# Altium footprint library con-weidmueller-sl35.PCBLIB: 184 footprints (part 2 of 12)
Each footprint in its own frame and in the unit in brackets; x right, y up, seen from the top. Pads: shape width x height; smd on the part's side, far side on the other; paste and mask are expansions set on the pad; w line width, h text height; cw(c..) or ccw(c..) is an arc to the next point about the centre after c.
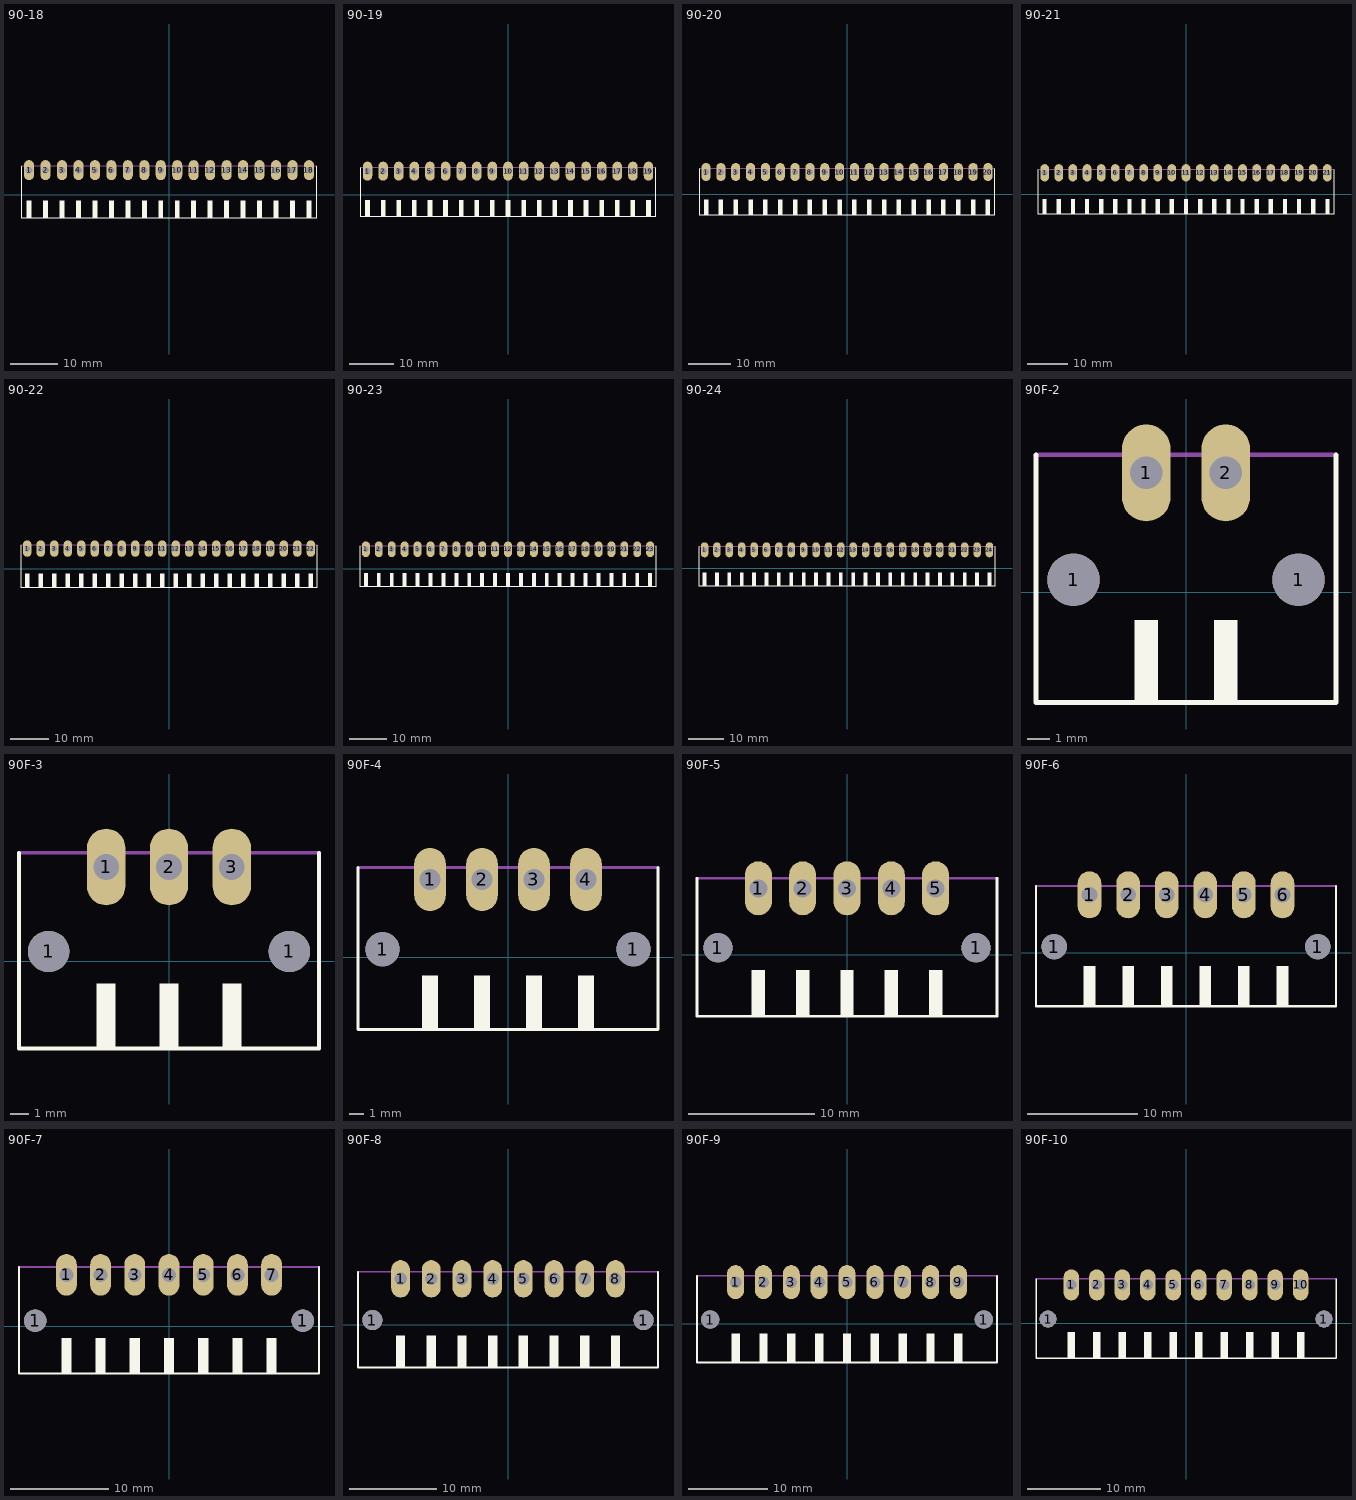
[diagram p1: the footprints below, top view; thin cyan lines are the x and y axes]

## 90-18 [mil]
pads (18):
  oval 84x168 hole 56: 1(-1171.26,206.69) 2(-1033.46,206.69) 3(-895.67,206.69) 4(-757.87,206.69) 5(-620.08,206.69) 6(-482.28,206.69) 7(-344.49,206.69) 8(-206.69,206.69) 9(-68.9,206.69) 10(68.9,206.69) 11(206.69,206.69) 12(344.49,206.69) 13(482.28,206.69) 14(620.08,206.69) 15(757.87,206.69) 16(895.67,206.69) 17(1033.46,206.69) 18(1171.26,206.69)
Top Overlay:
  rectangle: -1191.93,-192.91 -1150.59,-48.23
  rectangle: -1054.13,-192.91 -1012.8,-48.23
  rectangle: -916.34,-192.91 -875,-48.23
  rectangle: -778.54,-192.91 -737.2,-48.23
  rectangle: -640.75,-192.91 -599.41,-48.23
  rectangle: -502.95,-192.91 -461.61,-48.23
  rectangle: -365.16,-192.91 -323.82,-48.23
  rectangle: -227.36,-192.91 -186.02,-48.23
  rectangle: -89.57,-192.91 -48.23,-48.23
  rectangle: 48.23,-192.91 89.57,-48.23
  rectangle: 186.02,-192.91 227.36,-48.23
  rectangle: 323.82,-192.91 365.16,-48.23
  rectangle: 461.61,-192.91 502.95,-48.23
  rectangle: 599.41,-192.91 640.75,-48.23
  rectangle: 737.2,-192.91 778.54,-48.23
  rectangle: 875,-192.91 916.34,-48.23
  rectangle: 1012.8,-192.91 1054.13,-48.23
  rectangle: 1150.59,-192.91 1191.93,-48.23
  lines w8: -1236.22,238.19 -1236.22,-190.94 1236.22,-190.94 1236.22,238.19
Mechanical 16:
  lines w8: -1236.22,238.19 1236.22,238.19

## 90-19 [mil]
pads (19):
  oval 84x168 hole 56: 1(-1240.16,206.69) 2(-1102.36,206.69) 3(-964.57,206.69) 4(-826.77,206.69) 5(-688.98,206.69) 6(-551.18,206.69) 7(-413.39,206.69) 8(-275.59,206.69) 9(-137.8,206.69) 10(0,206.69) 11(137.8,206.69) 12(275.59,206.69) 13(413.39,206.69) 14(551.18,206.69) 15(688.98,206.69) 16(826.77,206.69) 17(964.57,206.69) 18(1102.36,206.69) 19(1240.16,206.69)
Top Overlay:
  rectangle: -1260.83,-192.91 -1219.49,-48.23
  rectangle: -1123.03,-192.91 -1081.69,-48.23
  rectangle: -985.24,-192.91 -943.9,-48.23
  rectangle: -847.44,-192.91 -806.1,-48.23
  rectangle: -709.65,-192.91 -668.31,-48.23
  rectangle: -571.85,-192.91 -530.51,-48.23
  rectangle: -434.06,-192.91 -392.72,-48.23
  rectangle: -296.26,-192.91 -254.92,-48.23
  rectangle: -158.46,-192.91 -117.13,-48.23
  rectangle: -20.67,-192.91 20.67,-48.23
  rectangle: 117.13,-192.91 158.46,-48.23
  rectangle: 254.92,-192.91 296.26,-48.23
  rectangle: 392.72,-192.91 434.06,-48.23
  rectangle: 530.51,-192.91 571.85,-48.23
  rectangle: 668.31,-192.91 709.65,-48.23
  rectangle: 806.1,-192.91 847.44,-48.23
  rectangle: 943.9,-192.91 985.24,-48.23
  rectangle: 1081.69,-192.91 1123.03,-48.23
  rectangle: 1219.49,-192.91 1260.83,-48.23
  lines w8: -1305.12,238.19 -1305.12,-190.94 1305.12,-190.94 1305.12,238.19
Mechanical 16:
  lines w8: -1305.12,238.19 1305.12,238.19

## 90-20 [mil]
pads (20):
  oval 84x168 hole 56: 1(-1309.06,206.69) 2(-1171.26,206.69) 3(-1033.46,206.69) 4(-895.67,206.69) 5(-757.87,206.69) 6(-620.08,206.69) 7(-482.28,206.69) 8(-344.49,206.69) 9(-206.69,206.69) 10(-68.9,206.69) 11(68.9,206.69) 12(206.69,206.69) 13(344.49,206.69) 14(482.28,206.69) 15(620.08,206.69) 16(757.87,206.69) 17(895.67,206.69) 18(1033.46,206.69) 19(1171.26,206.69) 20(1309.06,206.69)
Top Overlay:
  rectangle: -1329.72,-192.91 -1288.39,-48.23
  rectangle: -1191.93,-192.91 -1150.59,-48.23
  rectangle: -1054.13,-192.91 -1012.8,-48.23
  rectangle: -916.34,-192.91 -875,-48.23
  rectangle: -778.54,-192.91 -737.2,-48.23
  rectangle: -640.75,-192.91 -599.41,-48.23
  rectangle: -502.95,-192.91 -461.61,-48.23
  rectangle: -365.16,-192.91 -323.82,-48.23
  rectangle: -227.36,-192.91 -186.02,-48.23
  rectangle: -89.57,-192.91 -48.23,-48.23
  rectangle: 48.23,-192.91 89.57,-48.23
  rectangle: 186.02,-192.91 227.36,-48.23
  rectangle: 323.82,-192.91 365.16,-48.23
  rectangle: 461.61,-192.91 502.95,-48.23
  rectangle: 599.41,-192.91 640.75,-48.23
  rectangle: 737.2,-192.91 778.54,-48.23
  rectangle: 875,-192.91 916.34,-48.23
  rectangle: 1012.8,-192.91 1054.13,-48.23
  rectangle: 1150.59,-192.91 1191.93,-48.23
  rectangle: 1288.39,-192.91 1329.72,-48.23
  lines w8: -1374.02,238.19 -1374.02,-190.94 1374.02,-190.94 1374.02,238.19
Mechanical 16:
  lines w8: -1374.02,238.19 1374.02,238.19

## 90-21 [mil]
pads (21):
  oval 84x168 hole 56: 1(-1377.95,206.69) 2(-1240.16,206.69) 3(-1102.36,206.69) 4(-964.57,206.69) 5(-826.77,206.69) 6(-688.98,206.69) 7(-551.18,206.69) 8(-413.39,206.69) 9(-275.59,206.69) 10(-137.8,206.69) 11(0,206.69) 12(137.8,206.69) 13(275.59,206.69) 14(413.39,206.69) 15(551.18,206.69) 16(688.98,206.69) 17(826.77,206.69) 18(964.57,206.69) 19(1102.36,206.69) 20(1240.16,206.69) 21(1377.95,206.69)
Top Overlay:
  rectangle: -1398.62,-192.91 -1357.28,-48.23
  rectangle: -1260.83,-192.91 -1219.49,-48.23
  rectangle: -1123.03,-192.91 -1081.69,-48.23
  rectangle: -985.24,-192.91 -943.9,-48.23
  rectangle: -847.44,-192.91 -806.1,-48.23
  rectangle: -709.65,-192.91 -668.31,-48.23
  rectangle: -571.85,-192.91 -530.51,-48.23
  rectangle: -434.06,-192.91 -392.72,-48.23
  rectangle: -296.26,-192.91 -254.92,-48.23
  rectangle: -158.46,-192.91 -117.13,-48.23
  rectangle: -20.67,-192.91 20.67,-48.23
  rectangle: 117.13,-192.91 158.46,-48.23
  rectangle: 254.92,-192.91 296.26,-48.23
  rectangle: 392.72,-192.91 434.06,-48.23
  rectangle: 530.51,-192.91 571.85,-48.23
  rectangle: 668.31,-192.91 709.65,-48.23
  rectangle: 806.1,-192.91 847.44,-48.23
  rectangle: 943.9,-192.91 985.24,-48.23
  rectangle: 1081.69,-192.91 1123.03,-48.23
  rectangle: 1219.49,-192.91 1260.83,-48.23
  rectangle: 1357.28,-192.91 1398.62,-48.23
  lines w8: -1442.91,238.19 -1442.91,-190.94 1442.91,-190.94 1442.91,238.19
Mechanical 16:
  lines w8: -1442.91,238.19 1442.91,238.19

## 90-22 [mil]
pads (22):
  oval 84x168 hole 56: 1(-1446.85,206.69) 2(-1309.06,206.69) 3(-1171.26,206.69) 4(-1033.46,206.69) 5(-895.67,206.69) 6(-757.87,206.69) 7(-620.08,206.69) 8(-482.28,206.69) 9(-344.49,206.69) 10(-206.69,206.69) 11(-68.9,206.69) 12(68.9,206.69) 13(206.69,206.69) 14(344.49,206.69) 15(482.28,206.69) 16(620.08,206.69) 17(757.87,206.69) 18(895.67,206.69) 19(1033.46,206.69) 20(1171.26,206.69) 21(1309.06,206.69) 22(1446.85,206.69)
Top Overlay:
  rectangle: -1467.52,-192.91 -1426.18,-48.23
  rectangle: -1329.72,-192.91 -1288.39,-48.23
  rectangle: -1191.93,-192.91 -1150.59,-48.23
  rectangle: -1054.13,-192.91 -1012.8,-48.23
  rectangle: -916.34,-192.91 -875,-48.23
  rectangle: -778.54,-192.91 -737.2,-48.23
  rectangle: -640.75,-192.91 -599.41,-48.23
  rectangle: -502.95,-192.91 -461.61,-48.23
  rectangle: -365.16,-192.91 -323.82,-48.23
  rectangle: -227.36,-192.91 -186.02,-48.23
  rectangle: -89.57,-192.91 -48.23,-48.23
  rectangle: 48.23,-192.91 89.57,-48.23
  rectangle: 186.02,-192.91 227.36,-48.23
  rectangle: 323.82,-192.91 365.16,-48.23
  rectangle: 461.61,-192.91 502.95,-48.23
  rectangle: 599.41,-192.91 640.75,-48.23
  rectangle: 737.2,-192.91 778.54,-48.23
  rectangle: 875,-192.91 916.34,-48.23
  rectangle: 1012.8,-192.91 1054.13,-48.23
  rectangle: 1150.59,-192.91 1191.93,-48.23
  rectangle: 1288.39,-192.91 1329.72,-48.23
  rectangle: 1426.18,-192.91 1467.52,-48.23
  lines w8: -1511.81,238.19 -1511.81,-190.94 1511.81,-190.94 1511.81,238.19
Mechanical 16:
  lines w8: -1511.81,238.19 1511.81,238.19

## 90-23 [mil]
pads (23):
  oval 84x168 hole 56: 1(-1515.75,206.69) 2(-1377.95,206.69) 3(-1240.16,206.69) 4(-1102.36,206.69) 5(-964.57,206.69) 6(-826.77,206.69) 7(-688.98,206.69) 8(-551.18,206.69) 9(-413.39,206.69) 10(-275.59,206.69) 11(-137.8,206.69) 12(0,206.69) 13(137.8,206.69) 14(275.59,206.69) 15(413.39,206.69) 16(551.18,206.69) 17(688.98,206.69) 18(826.77,206.69) 19(964.57,206.69) 20(1102.36,206.69) 21(1240.16,206.69) 22(1377.95,206.69) 23(1515.75,206.69)
Top Overlay:
  rectangle: -1536.42,-192.91 -1495.08,-48.23
  rectangle: -1398.62,-192.91 -1357.28,-48.23
  rectangle: -1260.83,-192.91 -1219.49,-48.23
  rectangle: -1123.03,-192.91 -1081.69,-48.23
  rectangle: -985.24,-192.91 -943.9,-48.23
  rectangle: -847.44,-192.91 -806.1,-48.23
  rectangle: -709.65,-192.91 -668.31,-48.23
  rectangle: -571.85,-192.91 -530.51,-48.23
  rectangle: -434.06,-192.91 -392.72,-48.23
  rectangle: -296.26,-192.91 -254.92,-48.23
  rectangle: -158.46,-192.91 -117.13,-48.23
  rectangle: -20.67,-192.91 20.67,-48.23
  rectangle: 117.13,-192.91 158.46,-48.23
  rectangle: 254.92,-192.91 296.26,-48.23
  rectangle: 392.72,-192.91 434.06,-48.23
  rectangle: 530.51,-192.91 571.85,-48.23
  rectangle: 668.31,-192.91 709.65,-48.23
  rectangle: 806.1,-192.91 847.44,-48.23
  rectangle: 943.9,-192.91 985.24,-48.23
  rectangle: 1081.69,-192.91 1123.03,-48.23
  rectangle: 1219.49,-192.91 1260.83,-48.23
  rectangle: 1357.28,-192.91 1398.62,-48.23
  rectangle: 1495.08,-192.91 1536.42,-48.23
  lines w8: -1580.71,238.19 -1580.71,-190.94 1580.71,-190.94 1580.71,238.19
Mechanical 16:
  lines w8: -1580.71,238.19 1580.71,238.19

## 90-24 [mil]
pads (24):
  oval 84x168 hole 56: 1(-1584.65,206.69) 2(-1446.85,206.69) 3(-1309.06,206.69) 4(-1171.26,206.69) 5(-1033.46,206.69) 6(-895.67,206.69) 7(-757.87,206.69) 8(-620.08,206.69) 9(-482.28,206.69) 10(-344.49,206.69) 11(-206.69,206.69) 12(-68.9,206.69) 13(68.9,206.69) 14(206.69,206.69) 15(344.49,206.69) 16(482.28,206.69) 17(620.08,206.69) 18(757.87,206.69) 19(895.67,206.69) 20(1033.46,206.69) 21(1171.26,206.69) 22(1309.06,206.69) 23(1446.85,206.69) 24(1584.65,206.69)
Top Overlay:
  rectangle: -1605.31,-192.91 -1563.98,-48.23
  rectangle: -1467.52,-192.91 -1426.18,-48.23
  rectangle: -1329.72,-192.91 -1288.39,-48.23
  rectangle: -1191.93,-192.91 -1150.59,-48.23
  rectangle: -1054.13,-192.91 -1012.8,-48.23
  rectangle: -916.34,-192.91 -875,-48.23
  rectangle: -778.54,-192.91 -737.2,-48.23
  rectangle: -640.75,-192.91 -599.41,-48.23
  rectangle: -502.95,-192.91 -461.61,-48.23
  rectangle: -365.16,-192.91 -323.82,-48.23
  rectangle: -227.36,-192.91 -186.02,-48.23
  rectangle: -89.57,-192.91 -48.23,-48.23
  rectangle: 48.23,-192.91 89.57,-48.23
  rectangle: 186.02,-192.91 227.36,-48.23
  rectangle: 323.82,-192.91 365.16,-48.23
  rectangle: 461.61,-192.91 502.95,-48.23
  rectangle: 599.41,-192.91 640.75,-48.23
  rectangle: 737.2,-192.91 778.54,-48.23
  rectangle: 875,-192.91 916.34,-48.23
  rectangle: 1012.8,-192.91 1054.13,-48.23
  rectangle: 1150.59,-192.91 1191.93,-48.23
  rectangle: 1288.39,-192.91 1329.72,-48.23
  rectangle: 1426.18,-192.91 1467.52,-48.23
  rectangle: 1563.98,-192.91 1605.31,-48.23
  lines w8: -1649.61,238.19 -1649.61,-190.94 1649.61,-190.94 1649.61,238.19
Mechanical 16:
  lines w8: -1649.61,238.19 1649.61,238.19

## 90F-2 [mil]
pads (4):
  round 90.55 hole 90.55: 1(-194.88,21.65) 1(194.88,21.65)
  oval 84x168 hole 56: 1(-68.9,206.69) 2(68.9,206.69)
Top Overlay:
  rectangle: -89.57,-192.91 -48.23,-48.23
  rectangle: 48.23,-192.91 89.57,-48.23
  lines w8: -259.84,238.19 -259.84,-190.94 259.84,-190.94 259.84,238.19
Mechanical 16:
  lines w8: -259.84,238.19 259.84,238.19

## 90F-3 [mil]
pads (5):
  round 90.55 hole 90.55: 1(-263.78,21.65) 1(263.78,21.65)
  oval 84x168 hole 56: 1(-137.8,206.69) 2(0,206.69) 3(137.8,206.69)
Top Overlay:
  rectangle: -158.46,-192.91 -117.13,-48.23
  rectangle: -20.67,-192.91 20.67,-48.23
  rectangle: 117.13,-192.91 158.46,-48.23
  lines w8: -328.74,238.19 -328.74,-190.94 328.74,-190.94 328.74,238.19
Mechanical 16:
  lines w8: -328.74,238.19 328.74,238.19

## 90F-4 [mil]
pads (6):
  round 90.55 hole 90.55: 1(-332.68,21.65) 1(332.68,21.65)
  oval 84x168 hole 56: 1(-206.69,206.69) 2(-68.9,206.69) 3(68.9,206.69) 4(206.69,206.69)
Top Overlay:
  rectangle: -227.36,-192.91 -186.02,-48.23
  rectangle: -89.57,-192.91 -48.23,-48.23
  rectangle: 48.23,-192.91 89.57,-48.23
  rectangle: 186.02,-192.91 227.36,-48.23
  lines w8: -397.64,238.19 -397.64,-190.94 397.64,-190.94 397.64,238.19
Mechanical 16:
  lines w8: -397.64,238.19 397.64,238.19

## 90F-5 [mil]
pads (7):
  round 90.55 hole 90.55: 1(-401.57,21.65) 1(401.57,21.65)
  oval 84x168 hole 56: 1(-275.59,206.69) 2(-137.8,206.69) 3(0,206.69) 4(137.8,206.69) 5(275.59,206.69)
Top Overlay:
  rectangle: -296.26,-192.91 -254.92,-48.23
  rectangle: -158.46,-192.91 -117.13,-48.23
  rectangle: -20.67,-192.91 20.67,-48.23
  rectangle: 117.13,-192.91 158.46,-48.23
  rectangle: 254.92,-192.91 296.26,-48.23
  lines w8: -466.54,238.19 -466.54,-190.94 466.54,-190.94 466.54,238.19
Mechanical 16:
  lines w8: -466.54,238.19 466.54,238.19

## 90F-6 [mil]
pads (8):
  round 90.55 hole 90.55: 1(-470.47,21.65) 1(470.47,21.65)
  oval 84x168 hole 56: 1(-344.49,206.69) 2(-206.69,206.69) 3(-68.9,206.69) 4(68.9,206.69) 5(206.69,206.69) 6(344.49,206.69)
Top Overlay:
  rectangle: -365.16,-192.91 -323.82,-48.23
  rectangle: -227.36,-192.91 -186.02,-48.23
  rectangle: -89.57,-192.91 -48.23,-48.23
  rectangle: 48.23,-192.91 89.57,-48.23
  rectangle: 186.02,-192.91 227.36,-48.23
  rectangle: 323.82,-192.91 365.16,-48.23
  lines w8: -535.43,238.19 -535.43,-190.94 535.43,-190.94 535.43,238.19
Mechanical 16:
  lines w8: -535.43,238.19 535.43,238.19

## 90F-7 [mil]
pads (9):
  round 90.55 hole 90.55: 1(-539.37,21.65) 1(539.37,21.65)
  oval 84x168 hole 56: 1(-413.39,206.69) 2(-275.59,206.69) 3(-137.8,206.69) 4(0,206.69) 5(137.8,206.69) 6(275.59,206.69) 7(413.39,206.69)
Top Overlay:
  rectangle: -434.06,-192.91 -392.72,-48.23
  rectangle: -296.26,-192.91 -254.92,-48.23
  rectangle: -158.46,-192.91 -117.13,-48.23
  rectangle: -20.67,-192.91 20.67,-48.23
  rectangle: 117.13,-192.91 158.46,-48.23
  rectangle: 254.92,-192.91 296.26,-48.23
  rectangle: 392.72,-192.91 434.06,-48.23
  lines w8: -604.33,238.19 -604.33,-190.94 604.33,-190.94 604.33,238.19
Mechanical 16:
  lines w8: -604.33,238.19 604.33,238.19

## 90F-8 [mil]
pads (10):
  round 90.55 hole 90.55: 1(-608.27,21.65) 1(608.27,21.65)
  oval 84x168 hole 56: 1(-482.28,206.69) 2(-344.49,206.69) 3(-206.69,206.69) 4(-68.9,206.69) 5(68.9,206.69) 6(206.69,206.69) 7(344.49,206.69) 8(482.28,206.69)
Top Overlay:
  rectangle: -502.95,-192.91 -461.61,-48.23
  rectangle: -365.16,-192.91 -323.82,-48.23
  rectangle: -227.36,-192.91 -186.02,-48.23
  rectangle: -89.57,-192.91 -48.23,-48.23
  rectangle: 48.23,-192.91 89.57,-48.23
  rectangle: 186.02,-192.91 227.36,-48.23
  rectangle: 323.82,-192.91 365.16,-48.23
  rectangle: 461.61,-192.91 502.95,-48.23
  lines w8: -673.23,238.19 -673.23,-190.94 673.23,-190.94 673.23,238.19
Mechanical 16:
  lines w8: -673.23,238.19 673.23,238.19

## 90F-9 [mil]
pads (11):
  round 90.55 hole 90.55: 1(-677.17,21.65) 1(677.17,21.65)
  oval 84x168 hole 56: 1(-551.18,206.69) 2(-413.39,206.69) 3(-275.59,206.69) 4(-137.8,206.69) 5(0,206.69) 6(137.8,206.69) 7(275.59,206.69) 8(413.39,206.69) 9(551.18,206.69)
Top Overlay:
  rectangle: -571.85,-192.91 -530.51,-48.23
  rectangle: -434.06,-192.91 -392.72,-48.23
  rectangle: -296.26,-192.91 -254.92,-48.23
  rectangle: -158.46,-192.91 -117.13,-48.23
  rectangle: -20.67,-192.91 20.67,-48.23
  rectangle: 117.13,-192.91 158.46,-48.23
  rectangle: 254.92,-192.91 296.26,-48.23
  rectangle: 392.72,-192.91 434.06,-48.23
  rectangle: 530.51,-192.91 571.85,-48.23
  lines w8: -742.13,238.19 -742.13,-190.94 742.13,-190.94 742.13,238.19
Mechanical 16:
  lines w8: -742.13,238.19 742.13,238.19

## 90F-10 [mil]
pads (12):
  round 90.55 hole 90.55: 1(-746.06,21.65) 1(746.06,21.65)
  oval 84x168 hole 56: 1(-620.08,206.69) 2(-482.28,206.69) 3(-344.49,206.69) 4(-206.69,206.69) 5(-68.9,206.69) 6(68.9,206.69) 7(206.69,206.69) 8(344.49,206.69) 9(482.28,206.69) 10(620.08,206.69)
Top Overlay:
  rectangle: -640.75,-192.91 -599.41,-48.23
  rectangle: -502.95,-192.91 -461.61,-48.23
  rectangle: -365.16,-192.91 -323.82,-48.23
  rectangle: -227.36,-192.91 -186.02,-48.23
  rectangle: -89.57,-192.91 -48.23,-48.23
  rectangle: 48.23,-192.91 89.57,-48.23
  rectangle: 186.02,-192.91 227.36,-48.23
  rectangle: 323.82,-192.91 365.16,-48.23
  rectangle: 461.61,-192.91 502.95,-48.23
  rectangle: 599.41,-192.91 640.75,-48.23
  lines w8: -811.02,238.19 -811.02,-190.94 811.02,-190.94 811.02,238.19
Mechanical 16:
  lines w8: -811.02,238.19 811.02,238.19